# Altium integrated library NSC Logic Clock Clock Support.IntLib: 83 symbols (part 2 of 2)
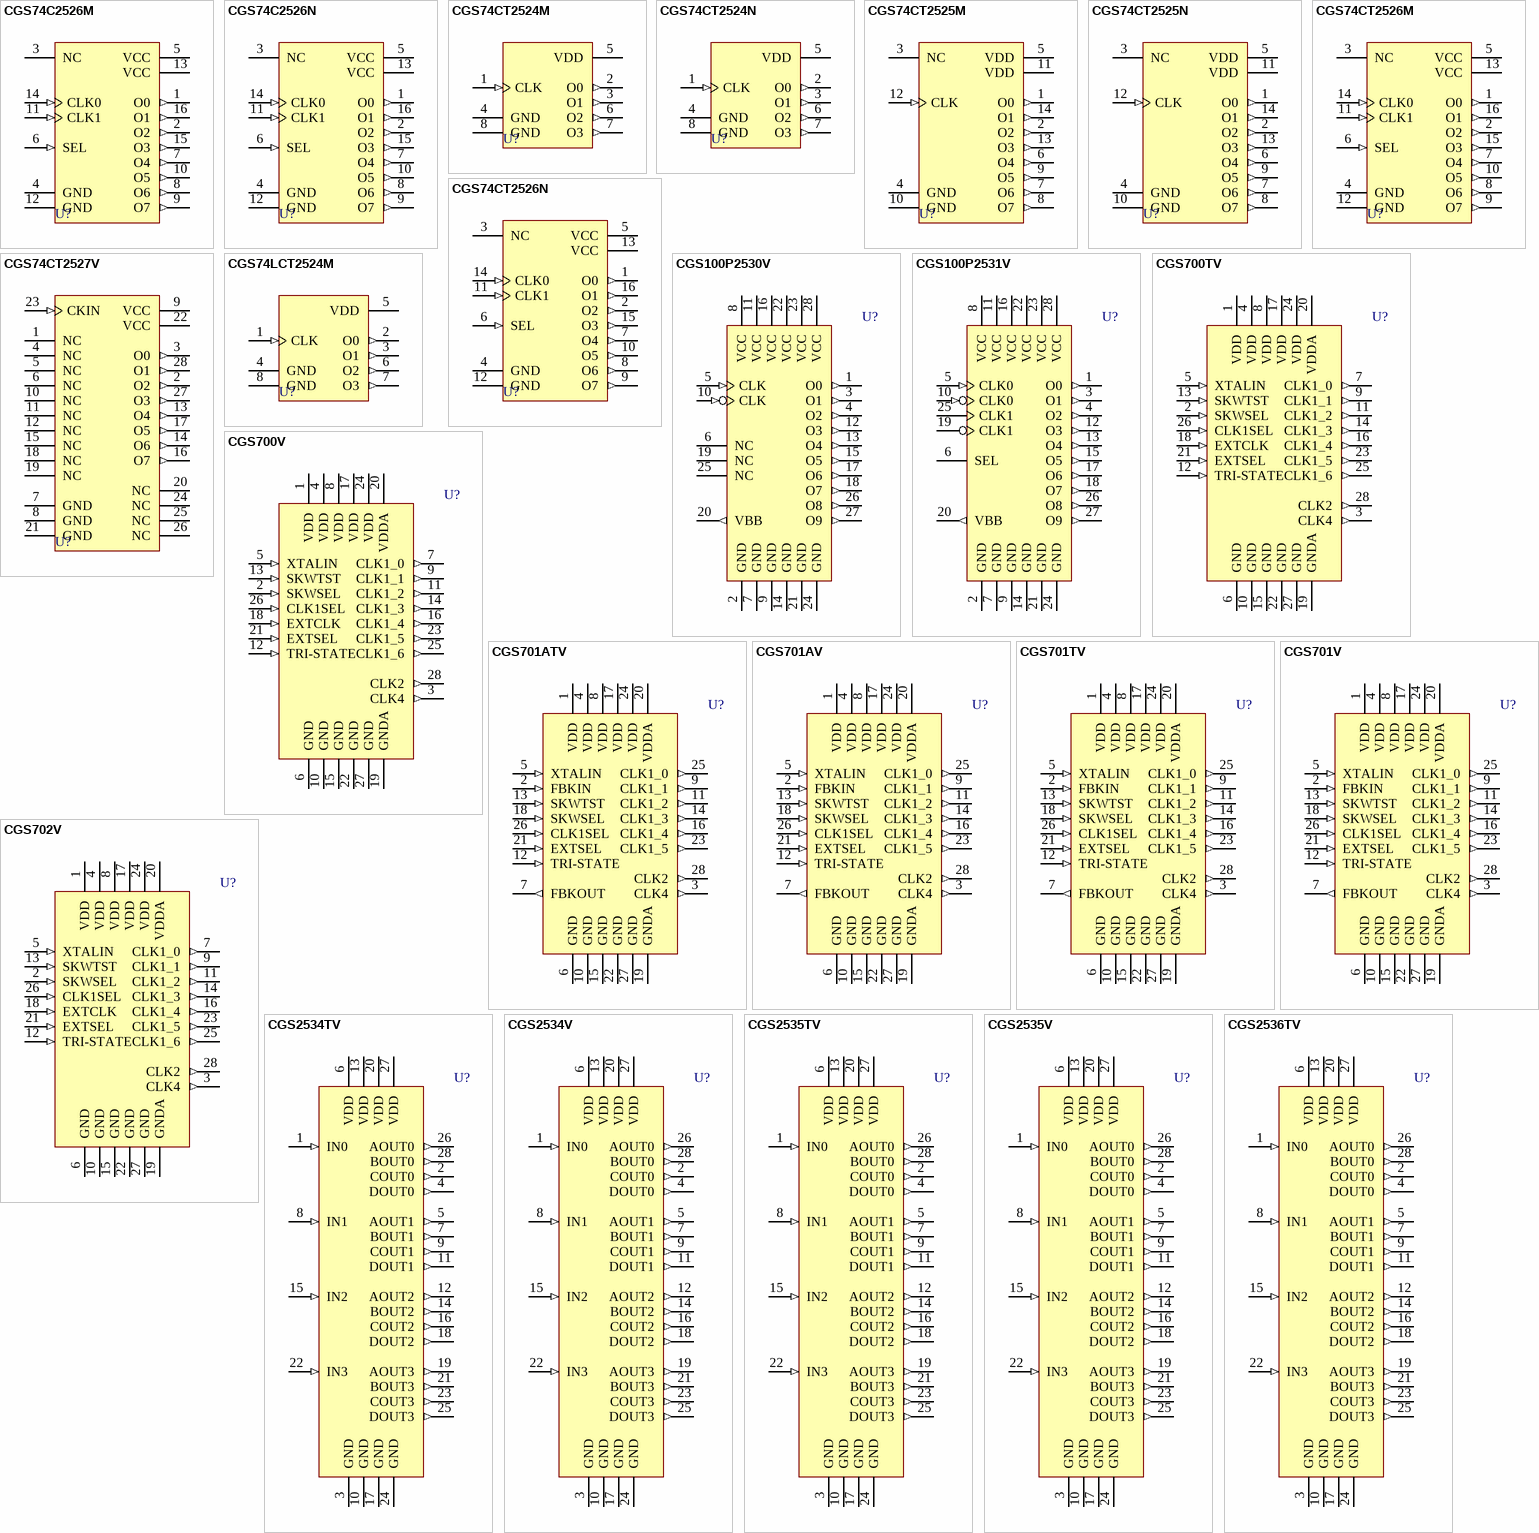
[diagram p3: symbols CGS74C2526M to CGS2536TV]

## CGS74CT2527V
designator U?
1-to-8 Minimum Skew (450 ps) Clock Driver; ComponentAvailability: Obsolete; Published: 15-Apr-2002; LatestRevisionDate: 13-Apr-2006; LatestRevisionNote: IPC-7351 Footprint Added.; DatasheetVersion: Apr-1993; PackageVersion: 2000; PackageReference: V28A; Publisher: Altium Limited; PackageDescription: 28-Pin Leaded Chip Carrier 1.27 mm Pitch; Code_IPC: PLCC-28; ComponentLink1Description: Manufacturer Link; ComponentLink1URL: http://www.national.com/; ComponentLink2Description: Discontinuation Notice; ComponentLink2URL: http://www.national.com/obs/obsolescence.txt
footprint V28A_N (Leaded Chip Carrier, 28-Leads, Body 11.5x11.5mm, Pitch 1.27mm, IPC Medium Density)
footprint V28A_L (Leaded Chip Carrier, 28-Leads, Body 11.5x11.5mm, Pitch 1.27mm, IPC High Density)
footprint V28A_M (Leaded Chip Carrier, 28-Leads, Body 11.5x11.5mm, Pitch 1.27mm, IPC Low Density)
3D model CGS74CT2527-V28A (28-Pin Leaded Chip Carrier 1.27 mm Pitch)
pins: 1 NC, 2 O2 (out), 3 O0 (out), 4 NC, 5 NC, 6 NC, 7 GND (power), 8 GND (power), 9 VCC (power), 10 NC, 11 NC, 12 NC, 13 O4 (out), 14 O6 (out), 15 NC, 16 O7 (out), 17 O5 (out), 18 NC, 19 NC, 20 NC, 21 GND (power), 22 VCC (power), 23 CKIN (in), 24 NC, 25 NC, 26 NC, 27 O3 (out), 28 O1 (out)

## CGS74LCT2524M
designator U?
1 to 4 Minimum Skew (300 ps) 3V Clock Driver; Published: 15-Apr-2002; LatestRevisionDate: 13-Apr-2006; LatestRevisionNote: IPC-7351 Footprint Added.; DatasheetVersion: Sep-1995; PackageVersion: Sep-1997; PackageReference: M08A; Publisher: Altium Limited; PackageDescription: 8-Pin Small Outline Integrated Circuit 1.27 mm Pitch; Code_JEDEC: MS-012-AA; Code_IPC: SOIC127P600-8; ComponentLink1Description: Manufacturer Link; ComponentLink1URL: http://www.national.com/; ComponentLink2Description: Datasheet; ComponentLink2URL: http://www.national.com/ds.cgi/CG/CGS74LCT2524.pdf; ComponentLink3Description: URL Link1; ComponentLink3URL: http://www.national.com/pf/CG/CGS74LCT2524.html
footprint M08A_N (SOIC, 8-Leads, Body 4.9x3.9mm, Pitch 1.27mm, IPC Medium Density)
footprint M08A_L (SOIC, 8-Leads, Body 4.9x3.9mm, Pitch 1.27mm, IPC High Density)
footprint M08A_M (SOIC, 8-Leads, Body 4.9x3.9mm, Pitch 1.27mm, IPC Low Density)
3D model M08A (8-Pin Small Outline Integrated Circuit 1.27 mm Pitch)
pins: 1 CLK (in), 2 O0 (out), 3 O1 (out), 4 GND (power), 5 VDD (power), 6 O2 (out), 7 O3 (out), 8 GND (power)

## CGS100P2530V
designator U?
PECL-TTL 1 to 10 Minimum Skew Clock Driver; ComponentAvailability: Obsolete; Published: 15-Apr-2002; LatestRevisionDate: 13-Apr-2006; LatestRevisionNote: IPC-7351 Footprint Added.; DatasheetVersion: Sep-1995; PackageVersion: 2000; PackageReference: V28A; Publisher: Altium Limited; PackageDescription: 28-Pin Leaded Chip Carrier 1.27 mm Pitch; Code_IPC: PLCC-28; ComponentLink1Description: Manufacturer Link; ComponentLink1URL: http://www.national.com/; ComponentLink2Description: Discontinuation Notice; ComponentLink2URL: http://www.national.com/obs/obsolescence.txt
footprint V28A_N (Leaded Chip Carrier, 28-Leads, Body 11.5x11.5mm, Pitch 1.27mm, IPC Medium Density)
footprint V28A_L (Leaded Chip Carrier, 28-Leads, Body 11.5x11.5mm, Pitch 1.27mm, IPC High Density)
footprint V28A_M (Leaded Chip Carrier, 28-Leads, Body 11.5x11.5mm, Pitch 1.27mm, IPC Low Density)
3D model CGS100P2530-V28A (28-Pin Leaded Chip Carrier 1.27 mm Pitch)
pins: 1 O0 (out), 2 GND (power), 3 O1 (out), 4 O2 (out), 5 CLK (in), 6 NC, 7 GND (power), 8 VCC (power), 9 GND (power), 10 CLK (in), 11 VCC (power), 12 O3 (out), 13 O4 (out), 14 GND (power), 15 O5 (out), 16 VCC (power), 17 O6 (out), 18 O7 (out), 19 NC, 20 VBB (out), 21 GND (power), 22 VCC (power), 23 VCC (power), 24 GND (power), 25 NC, 26 O8 (out), 27 O9 (out), 28 VCC (power)

## CGS100P2531V
designator U?
PECL-TTL 1 to 10 Minimum Skew Clock Driver; ComponentAvailability: Obsolete; Published: 15-Apr-2002; LatestRevisionDate: 13-Apr-2006; LatestRevisionNote: IPC-7351 Footprint Added.; DatasheetVersion: Sep-1995; PackageVersion: 2000; PackageReference: V28A; Publisher: Altium Limited; PackageDescription: 28-Pin Leaded Chip Carrier 1.27 mm Pitch; Code_IPC: PLCC-28; ComponentLink1Description: Manufacturer Link; ComponentLink1URL: http://www.national.com/; ComponentLink2Description: Discontinuation Notice; ComponentLink2URL: http://www.national.com/obs/obsolescence.txt
footprint V28A_N (Leaded Chip Carrier, 28-Leads, Body 11.5x11.5mm, Pitch 1.27mm, IPC Medium Density)
footprint V28A_L (Leaded Chip Carrier, 28-Leads, Body 11.5x11.5mm, Pitch 1.27mm, IPC High Density)
footprint V28A_M (Leaded Chip Carrier, 28-Leads, Body 11.5x11.5mm, Pitch 1.27mm, IPC Low Density)
3D model CGS100P2531-V28A (28-Pin Leaded Chip Carrier 1.27 mm Pitch)
pins: 1 O0 (out), 2 GND (power), 3 O1 (out), 4 O2 (out), 5 CLK0 (in), 6 SEL, 7 GND (power), 8 VCC (power), 9 GND (power), 10 CLK0 (in), 11 VCC (power), 12 O3 (out), 13 O4 (out), 14 GND (power), 15 O5 (out), 16 VCC (power), 17 O6 (out), 18 O7 (out), 19 CLK1, 20 VBB (out), 21 GND (power), 22 VCC (power), 23 VCC (power), 24 GND (power), 25 CLK1, 26 O8 (out), 27 O9 (out), 28 VCC (power)

## CGS700TV
designator U?
Low Skew PLL 1 to 9 CMOS Clock Driver; Published: 15-Apr-2002; LatestRevisionDate: 13-Apr-2006; LatestRevisionNote: IPC-7351 Footprint Added.; DatasheetVersion: Sep-1995; PackageVersion: 2000; PackageReference: V28A; Publisher: Altium Limited; PackageDescription: 28-Pin Leaded Chip Carrier 1.27 mm Pitch; Code_IPC: PLCC-28; ComponentLink1Description: Manufacturer Link; ComponentLink1URL: http://www.national.com/
footprint V28A_N (Leaded Chip Carrier, 28-Leads, Body 11.5x11.5mm, Pitch 1.27mm, IPC Medium Density)
footprint V28A_L (Leaded Chip Carrier, 28-Leads, Body 11.5x11.5mm, Pitch 1.27mm, IPC High Density)
footprint V28A_M (Leaded Chip Carrier, 28-Leads, Body 11.5x11.5mm, Pitch 1.27mm, IPC Low Density)
3D model CGS700-V28A (28-Pin Leaded Chip Carrier 1.27 mm Pitch)
signal-integrity model CGS700TV
pins: 1 VDD (power), 2 SKWSEL (in), 3 CLK4 (out), 4 VDD (power), 5 XTALIN (in), 6 GND (power), 7 CLK1_0 (out), 8 VDD (power), 9 CLK1_1 (out), 10 GND (power), 11 CLK1_2 (out), 12 TRI-STATE (in), 13 SKWTST (in), 14 CLK1_3 (out), 15 GND (power), 16 CLK1_4 (out), 17 VDD (power), 18 EXTCLK (in), 19 GNDA (power), 20 VDDA (power), 21 EXTSEL (in), 22 GND (power), 23 CLK1_5 (out), 24 VDD (power), 25 CLK1_6 (out), 26 CLK1SEL (in), 27 GND (power), 28 CLK2 (out)

## CGS700V
designator U?
Low Skew PLL 1 to 9 CMOS Clock Driver; ComponentAvailability: Obsolete; Published: 15-Apr-2002; LatestRevisionDate: 13-Apr-2006; LatestRevisionNote: IPC-7351 Footprint Added.; DatasheetVersion: Sep-1995; PackageVersion: 2000; PackageReference: V28A; Publisher: Altium Limited; PackageDescription: 28-Pin Leaded Chip Carrier 1.27 mm Pitch; Code_IPC: PLCC-28; ComponentLink1Description: Manufacturer Link; ComponentLink1URL: http://www.national.com/; ComponentLink2Description: Discontinuation Notice; ComponentLink2URL: http://www.national.com/obs/obsolescence.txt
footprint V28A_N (Leaded Chip Carrier, 28-Leads, Body 11.5x11.5mm, Pitch 1.27mm, IPC Medium Density)
footprint V28A_L (Leaded Chip Carrier, 28-Leads, Body 11.5x11.5mm, Pitch 1.27mm, IPC High Density)
footprint V28A_M (Leaded Chip Carrier, 28-Leads, Body 11.5x11.5mm, Pitch 1.27mm, IPC Low Density)
3D model CGS700-V28A (28-Pin Leaded Chip Carrier 1.27 mm Pitch)
signal-integrity model CGS700V
pins: 1 VDD (power), 2 SKWSEL (in), 3 CLK4 (out), 4 VDD (power), 5 XTALIN (in), 6 GND (power), 7 CLK1_0 (out), 8 VDD (power), 9 CLK1_1 (out), 10 GND (power), 11 CLK1_2 (out), 12 TRI-STATE (in), 13 SKWTST (in), 14 CLK1_3 (out), 15 GND (power), 16 CLK1_4 (out), 17 VDD (power), 18 EXTCLK (in), 19 GNDA (power), 20 VDDA (power), 21 EXTSEL (in), 22 GND (power), 23 CLK1_5 (out), 24 VDD (power), 25 CLK1_6 (out), 26 CLK1SEL (in), 27 GND (power), 28 CLK2 (out)

## CGS701ATV
designator U?
Low Skew PLL 1 to 8 CMOS Clock Driver; ComponentAvailability: Obsolete; Published: 15-Apr-2002; LatestRevisionDate: 13-Apr-2006; LatestRevisionNote: IPC-7351 Footprint Added.; DatasheetVersion: Dec-1995; PackageVersion: 2000; PackageReference: V28A; Publisher: Altium Limited; PackageDescription: 28-Pin Leaded Chip Carrier 1.27 mm Pitch; Code_IPC: PLCC-28; ComponentLink1Description: Manufacturer Link; ComponentLink1URL: http://www.national.com/; ComponentLink2Description: Discontinuation Notice; ComponentLink2URL: http://www.national.com/obs/obsolescence.txt
footprint V28A_N (Leaded Chip Carrier, 28-Leads, Body 11.5x11.5mm, Pitch 1.27mm, IPC Medium Density)
footprint V28A_L (Leaded Chip Carrier, 28-Leads, Body 11.5x11.5mm, Pitch 1.27mm, IPC High Density)
footprint V28A_M (Leaded Chip Carrier, 28-Leads, Body 11.5x11.5mm, Pitch 1.27mm, IPC Low Density)
3D model CGS701A-V28A (28-Pin Leaded Chip Carrier 1.27 mm Pitch)
signal-integrity model CGS701ATV
pins: 1 VDD (power), 2 FBKIN (in), 3 CLK4 (out), 4 VDD (power), 5 XTALIN (in), 6 GND (power), 7 FBKOUT (out), 8 VDD (power), 9 CLK1_1 (out), 10 GND (power), 11 CLK1_2 (out), 12 TRI-STATE (in), 13 SKWTST (in), 14 CLK1_3 (out), 15 GND (power), 16 CLK1_4 (out), 17 VDD (power), 18 SKWSEL (in), 19 GNDA (power), 20 VDDA (power), 21 EXTSEL (in), 22 GND (power), 23 CLK1_5 (out), 24 VDD (power), 25 CLK1_0 (out), 26 CLK1SEL (in), 27 GND (power), 28 CLK2 (out)

## CGS701AV
designator U?
Low Skew PLL 1 to 8 CMOS Clock Driver; ComponentAvailability: Obsolete; Published: 15-Apr-2002; LatestRevisionDate: 13-Apr-2006; LatestRevisionNote: IPC-7351 Footprint Added.; DatasheetVersion: Dec-1995; PackageVersion: 2000; PackageReference: V28A; Publisher: Altium Limited; PackageDescription: 28-Pin Leaded Chip Carrier 1.27 mm Pitch; Code_IPC: PLCC-28; ComponentLink1Description: Manufacturer Link; ComponentLink1URL: http://www.national.com/; ComponentLink2Description: Discontinuation Notice; ComponentLink2URL: http://www.national.com/obs/obsolescence.txt
footprint V28A_N (Leaded Chip Carrier, 28-Leads, Body 11.5x11.5mm, Pitch 1.27mm, IPC Medium Density)
footprint V28A_L (Leaded Chip Carrier, 28-Leads, Body 11.5x11.5mm, Pitch 1.27mm, IPC High Density)
footprint V28A_M (Leaded Chip Carrier, 28-Leads, Body 11.5x11.5mm, Pitch 1.27mm, IPC Low Density)
3D model CGS701A-V28A (28-Pin Leaded Chip Carrier 1.27 mm Pitch)
signal-integrity model CGS701AV
pins: 1 VDD (power), 2 FBKIN (in), 3 CLK4 (out), 4 VDD (power), 5 XTALIN (in), 6 GND (power), 7 FBKOUT (out), 8 VDD (power), 9 CLK1_1 (out), 10 GND (power), 11 CLK1_2 (out), 12 TRI-STATE (in), 13 SKWTST (in), 14 CLK1_3 (out), 15 GND (power), 16 CLK1_4 (out), 17 VDD (power), 18 SKWSEL (in), 19 GNDA (power), 20 VDDA (power), 21 EXTSEL (in), 22 GND (power), 23 CLK1_5 (out), 24 VDD (power), 25 CLK1_0 (out), 26 CLK1SEL (in), 27 GND (power), 28 CLK2 (out)

## CGS701TV
designator U?
Low Skew PLL 1 to 8 CMOS Clock Driver; Published: 15-Apr-2002; LatestRevisionDate: 13-Apr-2006; LatestRevisionNote: IPC-7351 Footprint Added.; DatasheetVersion: 1994; PackageVersion: 2000; PackageReference: V28A; Publisher: Altium Limited; PackageDescription: 28-Pin Leaded Chip Carrier 1.27 mm Pitch; Code_IPC: PLCC-28; ComponentLink1Description: Manufacturer Link; ComponentLink1URL: http://www.national.com/
footprint V28A_N (Leaded Chip Carrier, 28-Leads, Body 11.5x11.5mm, Pitch 1.27mm, IPC Medium Density)
footprint V28A_L (Leaded Chip Carrier, 28-Leads, Body 11.5x11.5mm, Pitch 1.27mm, IPC High Density)
footprint V28A_M (Leaded Chip Carrier, 28-Leads, Body 11.5x11.5mm, Pitch 1.27mm, IPC Low Density)
3D model CGS701-V28A (28-Pin Leaded Chip Carrier 1.27 mm Pitch)
signal-integrity model CGS701TV
pins: 1 VDD (power), 2 FBKIN (in), 3 CLK4 (out), 4 VDD (power), 5 XTALIN (in), 6 GND (power), 7 FBKOUT (out), 8 VDD (power), 9 CLK1_1 (out), 10 GND (power), 11 CLK1_2 (out), 12 TRI-STATE (in), 13 SKWTST (in), 14 CLK1_3 (out), 15 GND (power), 16 CLK1_4 (out), 17 VDD (power), 18 SKWSEL (in), 19 GNDA (power), 20 VDDA (power), 21 EXTSEL (in), 22 GND (power), 23 CLK1_5 (out), 24 VDD (power), 25 CLK1_0 (out), 26 CLK1SEL (in), 27 GND (power), 28 CLK2 (out)

## CGS701V
designator U?
Low Skew PLL 1 to 8 CMOS Clock Driver; Published: 15-Apr-2002; LatestRevisionDate: 13-Apr-2006; LatestRevisionNote: IPC-7351 Footprint Added.; DatasheetVersion: 1994; PackageVersion: 2000; PackageReference: V28A; Publisher: Altium Limited; PackageDescription: 28-Pin Leaded Chip Carrier 1.27 mm Pitch; Code_IPC: PLCC-28; ComponentLink1Description: Manufacturer Link; ComponentLink1URL: http://www.national.com/
footprint V28A_N (Leaded Chip Carrier, 28-Leads, Body 11.5x11.5mm, Pitch 1.27mm, IPC Medium Density)
footprint V28A_L (Leaded Chip Carrier, 28-Leads, Body 11.5x11.5mm, Pitch 1.27mm, IPC High Density)
footprint V28A_M (Leaded Chip Carrier, 28-Leads, Body 11.5x11.5mm, Pitch 1.27mm, IPC Low Density)
3D model CGS701-V28A (28-Pin Leaded Chip Carrier 1.27 mm Pitch)
signal-integrity model CGS701V
pins: 1 VDD (power), 2 FBKIN (in), 3 CLK4 (out), 4 VDD (power), 5 XTALIN (in), 6 GND (power), 7 FBKOUT (out), 8 VDD (power), 9 CLK1_1 (out), 10 GND (power), 11 CLK1_2 (out), 12 TRI-STATE (in), 13 SKWTST (in), 14 CLK1_3 (out), 15 GND (power), 16 CLK1_4 (out), 17 VDD (power), 18 SKWSEL (in), 19 GNDA (power), 20 VDDA (power), 21 EXTSEL (in), 22 GND (power), 23 CLK1_5 (out), 24 VDD (power), 25 CLK1_0 (out), 26 CLK1SEL (in), 27 GND (power), 28 CLK2 (out)

## CGS702V
designator U?
Low Skew PLL 1 to 9 CMOS Clock Driver with Improved EMI; ComponentAvailability: Obsolete; Published: 15-Apr-2002; LatestRevisionDate: 13-Apr-2006; LatestRevisionNote: IPC-7351 Footprint Added.; DatasheetVersion: Apr-1995; PackageVersion: 2000; PackageReference: V28A; Publisher: Altium Limited; PackageDescription: 28-Pin Leaded Chip Carrier 1.27 mm Pitch; Code_IPC: PLCC-28; ComponentLink1Description: Manufacturer Link; ComponentLink1URL: http://www.national.com/; ComponentLink2Description: Discontinuation Notice; ComponentLink2URL: http://www.national.com/obs/obsolescence.txt
footprint V28A_N (Leaded Chip Carrier, 28-Leads, Body 11.5x11.5mm, Pitch 1.27mm, IPC Medium Density)
footprint V28A_L (Leaded Chip Carrier, 28-Leads, Body 11.5x11.5mm, Pitch 1.27mm, IPC High Density)
footprint V28A_M (Leaded Chip Carrier, 28-Leads, Body 11.5x11.5mm, Pitch 1.27mm, IPC Low Density)
3D model CGS702-V28A (28-Pin Leaded Chip Carrier 1.27 mm Pitch)
signal-integrity model CGS702V
pins: 1 VDD (power), 2 SKWSEL (in), 3 CLK4 (out), 4 VDD (power), 5 XTALIN (in), 6 GND (power), 7 CLK1_0 (out), 8 VDD (power), 9 CLK1_1 (out), 10 GND (power), 11 CLK1_2 (out), 12 TRI-STATE (in), 13 SKWTST (in), 14 CLK1_3 (out), 15 GND (power), 16 CLK1_4 (out), 17 VDD (power), 18 EXTCLK (in), 19 GNDA (power), 20 VDDA (power), 21 EXTSEL (in), 22 GND (power), 23 CLK1_5 (out), 24 VDD (power), 25 CLK1_6 (out), 26 CLK1SEL (in), 27 GND (power), 28 CLK2 (out)

## CGS2534TV
designator U?
Quad 1 to 4 Clock Drivers; ComponentAvailability: Obsolete; Published: 15-Apr-2002; LatestRevisionDate: 13-Apr-2006; LatestRevisionNote: IPC-7351 Footprint Added.; DatasheetVersion: Sep-1995; PackageVersion: 2000; PackageReference: V28A; Publisher: Altium Limited; PackageDescription: 28-Pin Leaded Chip Carrier 1.27 mm Pitch; Code_IPC: PLCC-28; ComponentLink1Description: Manufacturer Link; ComponentLink1URL: http://www.national.com/; ComponentLink2Description: Discontinuation Notice; ComponentLink2URL: http://www.national.com/obs/obsolescence.txt
footprint V28A_N (Leaded Chip Carrier, 28-Leads, Body 11.5x11.5mm, Pitch 1.27mm, IPC Medium Density)
footprint V28A_L (Leaded Chip Carrier, 28-Leads, Body 11.5x11.5mm, Pitch 1.27mm, IPC High Density)
footprint V28A_M (Leaded Chip Carrier, 28-Leads, Body 11.5x11.5mm, Pitch 1.27mm, IPC Low Density)
3D model CGS2534-V28A (28-Pin Leaded Chip Carrier 1.27 mm Pitch)
pins: 1 IN0 (in), 2 COUT0 (out), 3 GND (power), 4 DOUT0 (out), 5 AOUT1 (out), 6 VDD (power), 7 BOUT1 (out), 8 IN1 (in), 9 COUT1 (out), 10 GND (power), 11 DOUT1 (out), 12 AOUT2 (out), 13 VDD (power), 14 BOUT2 (out), 15 IN2 (in), 16 COUT2 (out), 17 GND (power), 18 DOUT2 (out), 19 AOUT3 (out), 20 VDD (power), 21 BOUT3 (out), 22 IN3 (in), 23 COUT3 (out), 24 GND (power), 25 DOUT3 (out), 26 AOUT0 (out), 27 VDD (power), 28 BOUT0 (out)

## CGS2534V
designator U?
Quad 1 to 4 Clock Drivers; ComponentAvailability: Obsolete; Published: 15-Apr-2002; LatestRevisionDate: 13-Apr-2006; LatestRevisionNote: IPC-7351 Footprint Added.; DatasheetVersion: Sep-1995; PackageVersion: 2000; PackageReference: V28A; Publisher: Altium Limited; PackageDescription: 28-Pin Leaded Chip Carrier 1.27 mm Pitch; Code_IPC: PLCC-28; ComponentLink1Description: Manufacturer Link; ComponentLink1URL: http://www.national.com/; ComponentLink2Description: Discontinuation Notice; ComponentLink2URL: http://www.national.com/obs/obsolescence.txt
footprint V28A_N (Leaded Chip Carrier, 28-Leads, Body 11.5x11.5mm, Pitch 1.27mm, IPC Medium Density)
footprint V28A_L (Leaded Chip Carrier, 28-Leads, Body 11.5x11.5mm, Pitch 1.27mm, IPC High Density)
footprint V28A_M (Leaded Chip Carrier, 28-Leads, Body 11.5x11.5mm, Pitch 1.27mm, IPC Low Density)
3D model CGS2534-V28A (28-Pin Leaded Chip Carrier 1.27 mm Pitch)
pins: 1 IN0 (in), 2 COUT0 (out), 3 GND (power), 4 DOUT0 (out), 5 AOUT1 (out), 6 VDD (power), 7 BOUT1 (out), 8 IN1 (in), 9 COUT1 (out), 10 GND (power), 11 DOUT1 (out), 12 AOUT2 (out), 13 VDD (power), 14 BOUT2 (out), 15 IN2 (in), 16 COUT2 (out), 17 GND (power), 18 DOUT2 (out), 19 AOUT3 (out), 20 VDD (power), 21 BOUT3 (out), 22 IN3 (in), 23 COUT3 (out), 24 GND (power), 25 DOUT3 (out), 26 AOUT0 (out), 27 VDD (power), 28 BOUT0 (out)

## CGS2535TV
designator U?
Quad 1 to 4 Clock Drivers; Published: 15-Apr-2002; LatestRevisionDate: 13-Apr-2006; LatestRevisionNote: IPC-7351 Footprint Added.; DatasheetVersion: Mar-1997; PackageVersion: 2000; PackageReference: V28A; Publisher: Altium Limited; PackageDescription: 28-Pin Leaded Chip Carrier 1.27 mm Pitch; Code_IPC: PLCC-28; ComponentLink1Description: Manufacturer Link; ComponentLink1URL: http://www.national.com/; ComponentLink2Description: Datasheet; ComponentLink2URL: http://www.national.com/ds.cgi/CG/CGS2535TV.pdf; ComponentLink3Description: URL Link1; ComponentLink3URL: http://www.national.com/pf/CG/CGS2535TV.html
footprint V28A_N (Leaded Chip Carrier, 28-Leads, Body 11.5x11.5mm, Pitch 1.27mm, IPC Medium Density)
footprint V28A_L (Leaded Chip Carrier, 28-Leads, Body 11.5x11.5mm, Pitch 1.27mm, IPC High Density)
footprint V28A_M (Leaded Chip Carrier, 28-Leads, Body 11.5x11.5mm, Pitch 1.27mm, IPC Low Density)
3D model CGS2535-V28A (28-Pin Leaded Chip Carrier 1.27 mm Pitch)
pins: 1 IN0 (in), 2 COUT0 (out), 3 GND (power), 4 DOUT0 (out), 5 AOUT1 (out), 6 VDD (power), 7 BOUT1 (out), 8 IN1 (in), 9 COUT1 (out), 10 GND (power), 11 DOUT1 (out), 12 AOUT2 (out), 13 VDD (power), 14 BOUT2 (out), 15 IN2 (in), 16 COUT2 (out), 17 GND (power), 18 DOUT2 (out), 19 AOUT3 (out), 20 VDD (power), 21 BOUT3 (out), 22 IN3 (in), 23 COUT3 (out), 24 GND (power), 25 DOUT3 (out), 26 AOUT0 (out), 27 VDD (power), 28 BOUT0 (out)

## CGS2535V
designator U?
Quad 1 to 4 Clock Drivers; Published: 15-Apr-2002; LatestRevisionDate: 13-Apr-2006; LatestRevisionNote: IPC-7351 Footprint Added.; DatasheetVersion: Mar-1997; PackageVersion: 2000; PackageReference: V28A; Publisher: Altium Limited; PackageDescription: 28-Pin Leaded Chip Carrier 1.27 mm Pitch; Code_IPC: PLCC-28; ComponentLink1Description: Manufacturer Link; ComponentLink1URL: http://www.national.com/; ComponentLink2Description: Datasheet; ComponentLink2URL: http://www.national.com/ds.cgi/CG/CGS2535TV.pdf; ComponentLink3Description: URL Link1; ComponentLink3URL: http://www.national.com/pf/CG/CGS2535V.html
footprint V28A_N (Leaded Chip Carrier, 28-Leads, Body 11.5x11.5mm, Pitch 1.27mm, IPC Medium Density)
footprint V28A_L (Leaded Chip Carrier, 28-Leads, Body 11.5x11.5mm, Pitch 1.27mm, IPC High Density)
footprint V28A_M (Leaded Chip Carrier, 28-Leads, Body 11.5x11.5mm, Pitch 1.27mm, IPC Low Density)
3D model CGS2535-V28A (28-Pin Leaded Chip Carrier 1.27 mm Pitch)
pins: 1 IN0 (in), 2 COUT0 (out), 3 GND (power), 4 DOUT0 (out), 5 AOUT1 (out), 6 VDD (power), 7 BOUT1 (out), 8 IN1 (in), 9 COUT1 (out), 10 GND (power), 11 DOUT1 (out), 12 AOUT2 (out), 13 VDD (power), 14 BOUT2 (out), 15 IN2 (in), 16 COUT2 (out), 17 GND (power), 18 DOUT2 (out), 19 AOUT3 (out), 20 VDD (power), 21 BOUT3 (out), 22 IN3 (in), 23 COUT3 (out), 24 GND (power), 25 DOUT3 (out), 26 AOUT0 (out), 27 VDD (power), 28 BOUT0 (out)

## CGS2536TV
designator U?
Quad 1 to 4 Clock Drivers; Published: 15-Apr-2002; LatestRevisionDate: 13-Apr-2006; LatestRevisionNote: IPC-7351 Footprint Added.; DatasheetVersion: Sep-1995; PackageVersion: 2000; PackageReference: V28A; Publisher: Altium Limited; PackageDescription: 28-Pin Leaded Chip Carrier 1.27 mm Pitch; Code_IPC: PLCC-28; ComponentLink1Description: Manufacturer Link; ComponentLink1URL: http://www.national.com/
footprint V28A_N (Leaded Chip Carrier, 28-Leads, Body 11.5x11.5mm, Pitch 1.27mm, IPC Medium Density)
footprint V28A_L (Leaded Chip Carrier, 28-Leads, Body 11.5x11.5mm, Pitch 1.27mm, IPC High Density)
footprint V28A_M (Leaded Chip Carrier, 28-Leads, Body 11.5x11.5mm, Pitch 1.27mm, IPC Low Density)
3D model CGS2536-V28A (28-Pin Leaded Chip Carrier 1.27 mm Pitch)
pins: 1 IN0 (in), 2 COUT0 (out), 3 GND (power), 4 DOUT0 (out), 5 AOUT1 (out), 6 VDD (power), 7 BOUT1 (out), 8 IN1 (in), 9 COUT1 (out), 10 GND (power), 11 DOUT1 (out), 12 AOUT2 (out), 13 VDD (power), 14 BOUT2 (out), 15 IN2 (in), 16 COUT2 (out), 17 GND (power), 18 DOUT2 (out), 19 AOUT3 (out), 20 VDD (power), 21 BOUT3 (out), 22 IN3 (in), 23 COUT3 (out), 24 GND (power), 25 DOUT3 (out), 26 AOUT0 (out), 27 VDD (power), 28 BOUT0 (out)

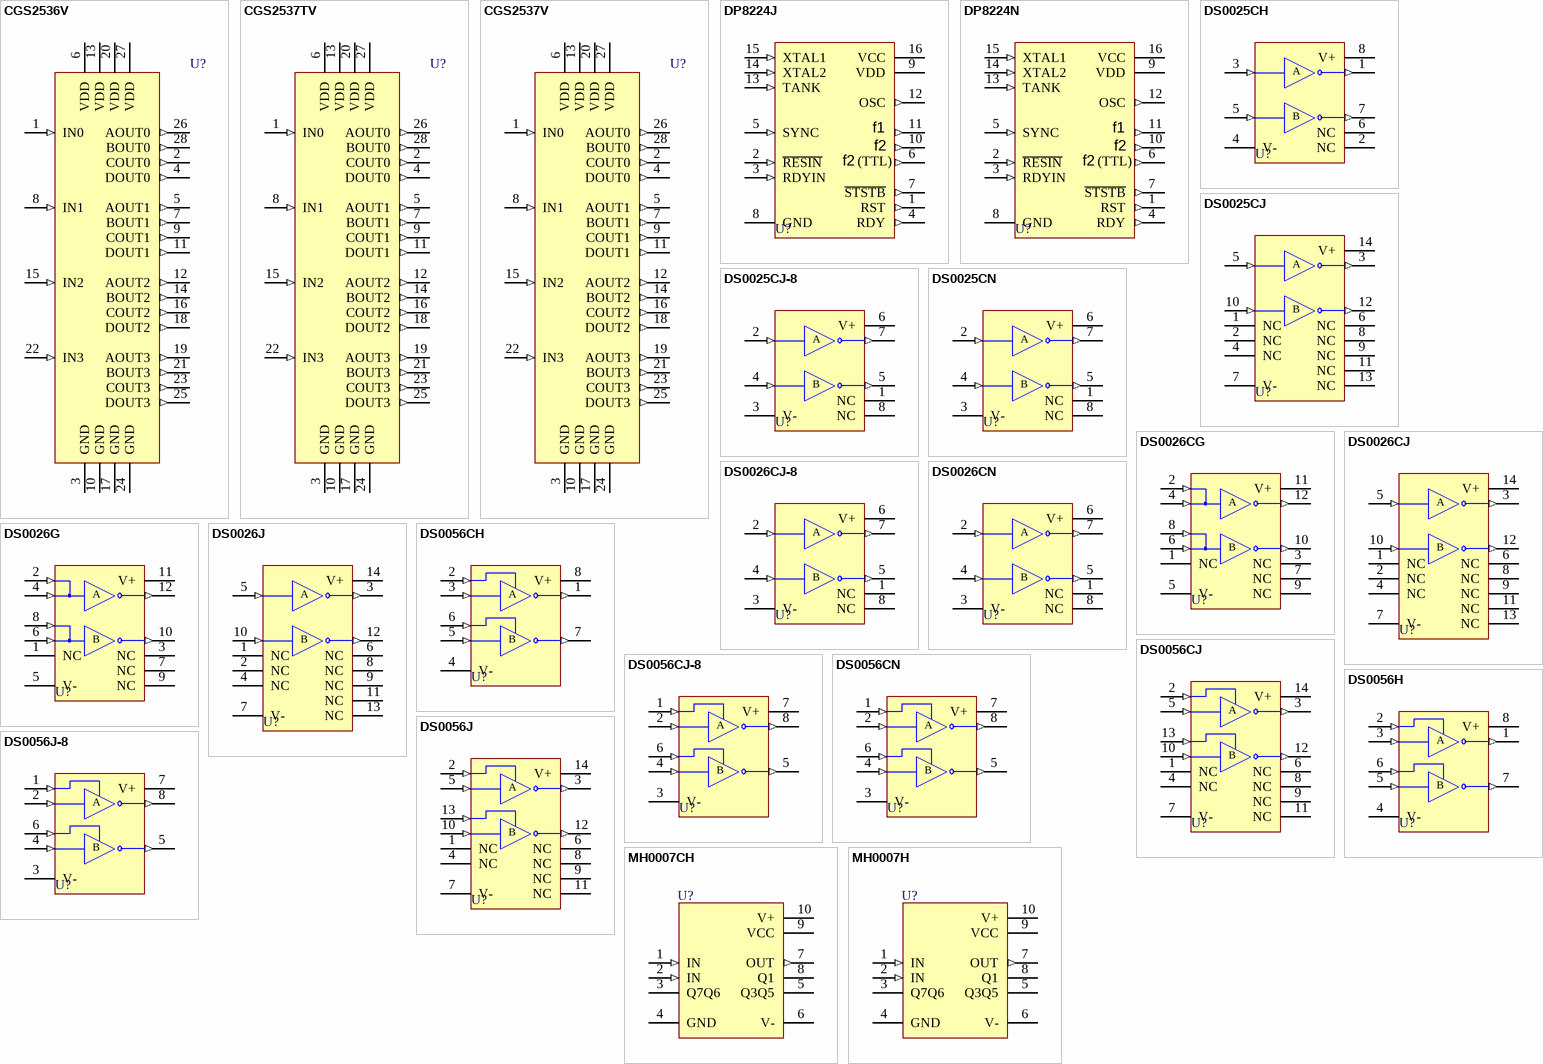
[diagram p2: symbols CGS2536V to MH0007H]

## CGS2536V
designator U?
Quad 1 to 4 Clock Drivers; ComponentAvailability: Obsolete; Published: 15-Apr-2002; LatestRevisionDate: 13-Apr-2006; LatestRevisionNote: IPC-7351 Footprint Added.; DatasheetVersion: Sep-1995; PackageVersion: 2000; PackageReference: V28A; Publisher: Altium Limited; PackageDescription: 28-Pin Leaded Chip Carrier 1.27 mm Pitch; Code_IPC: PLCC-28; ComponentLink1Description: Manufacturer Link; ComponentLink1URL: http://www.national.com/; ComponentLink2Description: Discontinuation Notice; ComponentLink2URL: http://www.national.com/obs/obsolescence.txt
footprint V28A_N (Leaded Chip Carrier, 28-Leads, Body 11.5x11.5mm, Pitch 1.27mm, IPC Medium Density)
footprint V28A_L (Leaded Chip Carrier, 28-Leads, Body 11.5x11.5mm, Pitch 1.27mm, IPC High Density)
footprint V28A_M (Leaded Chip Carrier, 28-Leads, Body 11.5x11.5mm, Pitch 1.27mm, IPC Low Density)
3D model CGS2536-V28A (28-Pin Leaded Chip Carrier 1.27 mm Pitch)
pins: 1 IN0 (in), 2 COUT0 (out), 3 GND (power), 4 DOUT0 (out), 5 AOUT1 (out), 6 VDD (power), 7 BOUT1 (out), 8 IN1 (in), 9 COUT1 (out), 10 GND (power), 11 DOUT1 (out), 12 AOUT2 (out), 13 VDD (power), 14 BOUT2 (out), 15 IN2 (in), 16 COUT2 (out), 17 GND (power), 18 DOUT2 (out), 19 AOUT3 (out), 20 VDD (power), 21 BOUT3 (out), 22 IN3 (in), 23 COUT3 (out), 24 GND (power), 25 DOUT3 (out), 26 AOUT0 (out), 27 VDD (power), 28 BOUT0 (out)

## CGS2537TV
designator U?
Quad 1 to 4 Clock Drivers; ComponentAvailability: Obsolete; Published: 15-Apr-2002; LatestRevisionDate: 13-Apr-2006; LatestRevisionNote: IPC-7351 Footprint Added.; DatasheetVersion: Sep-1995; PackageVersion: 2000; PackageReference: V28A; Publisher: Altium Limited; PackageDescription: 28-Pin Leaded Chip Carrier 1.27 mm Pitch; Code_IPC: PLCC-28; ComponentLink1Description: Manufacturer Link; ComponentLink1URL: http://www.national.com/; ComponentLink2Description: Discontinuation Notice; ComponentLink2URL: http://www.national.com/obs/obsolescence.txt
footprint V28A_N (Leaded Chip Carrier, 28-Leads, Body 11.5x11.5mm, Pitch 1.27mm, IPC Medium Density)
footprint V28A_L (Leaded Chip Carrier, 28-Leads, Body 11.5x11.5mm, Pitch 1.27mm, IPC High Density)
footprint V28A_M (Leaded Chip Carrier, 28-Leads, Body 11.5x11.5mm, Pitch 1.27mm, IPC Low Density)
3D model CGS2537-V28A (28-Pin Leaded Chip Carrier 1.27 mm Pitch)
pins: 1 IN0 (in), 2 COUT0 (out), 3 GND (power), 4 DOUT0 (out), 5 AOUT1 (out), 6 VDD (power), 7 BOUT1 (out), 8 IN1 (in), 9 COUT1 (out), 10 GND (power), 11 DOUT1 (out), 12 AOUT2 (out), 13 VDD (power), 14 BOUT2 (out), 15 IN2 (in), 16 COUT2 (out), 17 GND (power), 18 DOUT2 (out), 19 AOUT3 (out), 20 VDD (power), 21 BOUT3 (out), 22 IN3 (in), 23 COUT3 (out), 24 GND (power), 25 DOUT3 (out), 26 AOUT0 (out), 27 VDD (power), 28 BOUT0 (out)

## CGS2537V
designator U?
Quad 1 to 4 Clock Drivers; ComponentAvailability: Obsolete; Published: 15-Apr-2002; LatestRevisionDate: 13-Apr-2006; LatestRevisionNote: IPC-7351 Footprint Added.; DatasheetVersion: Sep-1995; PackageVersion: 2000; PackageReference: V28A; Publisher: Altium Limited; PackageDescription: 28-Pin Leaded Chip Carrier 1.27 mm Pitch; Code_IPC: PLCC-28; ComponentLink1Description: Manufacturer Link; ComponentLink1URL: http://www.national.com/; ComponentLink2Description: Discontinuation Notice; ComponentLink2URL: http://www.national.com/obs/obsolescence.txt
footprint V28A_N (Leaded Chip Carrier, 28-Leads, Body 11.5x11.5mm, Pitch 1.27mm, IPC Medium Density)
footprint V28A_L (Leaded Chip Carrier, 28-Leads, Body 11.5x11.5mm, Pitch 1.27mm, IPC High Density)
footprint V28A_M (Leaded Chip Carrier, 28-Leads, Body 11.5x11.5mm, Pitch 1.27mm, IPC Low Density)
3D model CGS2537-V28A (28-Pin Leaded Chip Carrier 1.27 mm Pitch)
pins: 1 IN0 (in), 2 COUT0 (out), 3 GND (power), 4 DOUT0 (out), 5 AOUT1 (out), 6 VDD (power), 7 BOUT1 (out), 8 IN1 (in), 9 COUT1 (out), 10 GND (power), 11 DOUT1 (out), 12 AOUT2 (out), 13 VDD (power), 14 BOUT2 (out), 15 IN2 (in), 16 COUT2 (out), 17 GND (power), 18 DOUT2 (out), 19 AOUT3 (out), 20 VDD (power), 21 BOUT3 (out), 22 IN3 (in), 23 COUT3 (out), 24 GND (power), 25 DOUT3 (out), 26 AOUT0 (out), 27 VDD (power), 28 BOUT0 (out)

## DP8224J
designator U?
Clock Generator and Driver; Published: 15-Apr-2002; LatestRevisionDate: 06-Jun-2005; LatestRevisionNote: Stylized 3D Model Added.; DatasheetVersion: Jun-1986; PackageVersion: 2000; PackageReference: J16A; Publisher: Altium Limited; PackageDescription: DIP; 16 Leads; Row Spacing 7.62 mm; Pitch 2.54 mm; ComponentLink1Description: Manufacturer Link; ComponentLink1URL: http://www.national.com/; ComponentLink2Description: Datasheet; ComponentLink2URL: http://www.national.com/ds.cgi/DP/DP8224.pdf; ComponentLink3Description: URL Link1; ComponentLink3URL: http://www.national.com/pf/DP/DP8224.html
footprint J16A (DIP; 16 Leads; Row Spacing 7.62 mm; Pitch 2.54 mm)
3D model N16E (DIP; 16 Leads; Row Spacing 7.62 mm; Pitch 2.54 mm)
pins: 1 RST (out), 2 ~{RESIN} (in), 3 RDYIN (in), 4 RDY (out), 5 SYNC (in), 6 PHI2(TTL) (out), 7 ~{STSTB} (out), 8 GND (power), 9 VDD (power), 10 PHI2 (out), 11 PHI1 (out), 12 OSC (out), 13 TANK (in), 14 XTAL2 (in), 15 XTAL1 (in), 16 VCC (power)
text: f1; f2; (TTL)

## DP8224N
designator U?
Clock Generator and Driver; ComponentAvailability: Obsolete; Published: 15-Apr-2002; LatestRevisionDate: 06-Jun-2005; LatestRevisionNote: Stylized 3D Model Added.; DatasheetVersion: Jun-1986; PackageVersion: 2000; PackageReference: N16A; Publisher: Altium Limited; PackageDescription: DIP; 16 Leads; Row Spacing 7.62 mm; Pitch 2.54 mm; ComponentLink1Description: Manufacturer Link; ComponentLink1URL: http://www.national.com/; ComponentLink2Description: Datasheet; ComponentLink2URL: http://www.national.com/ds.cgi/DP/DP8224.pdf; ComponentLink3Description: Discontinuation Notice; ComponentLink3URL: http://www.national.com/obs/obsolescence.txt; ComponentLink4Description: URL Link1; ComponentLink4URL: http://www.national.com/pf/DP/DP8224.html
footprint N16A (DIP; 16 Leads; Row Spacing 7.62 mm; Pitch 2.54 mm)
3D model N16A (DIP; 16 Leads; Row Spacing 7.62 mm; Pitch 2.54 mm)
pins: 1 RST (out), 2 ~{RESIN} (in), 3 RDYIN (in), 4 RDY (out), 5 SYNC (in), 6 PHI2(TTL) (out), 7 ~{STSTB} (out), 8 GND (power), 9 VDD (power), 10 PHI2 (out), 11 PHI1 (out), 12 OSC (out), 13 TANK (in), 14 XTAL2 (in), 15 XTAL1 (in), 16 VCC (power)
text: f1; f2; (TTL)

## DS0025CH
designator U?
Two Phase MOS Clock Driver; Note: Pin 4 is connected to case.; Published: 15-Apr-2002; DatasheetVersion: Jun-1992; PackageVersion: 2000; PackageReference: H08C; Publisher: Altium Limited; PackageDescription: Can; 8 Leads; Pin Circle Dia. 5.08 mm; Lead Dia. 0.48 mm (max); ComponentLink1Description: Manufacturer Link; ComponentLink1URL: http://www.national.com/
footprint H08C (Can; 8 Leads; Pin Circle Dia. 5.08 mm; Lead Dia. 0.48 mm (max))
pins: 1 OUT (out), 2 NC, 3 IN (in), 4 V- (power), 5 IN (in), 6 NC, 7 OUT (out), 8 V+ (power)
text: A; B

## DS0025CJ
designator U?
Two Phase MOS Clock Driver; Published: 15-Apr-2002; LatestRevisionDate: 06-Jun-2005; LatestRevisionNote: Stylized 3D Model Added.; DatasheetVersion: Jun-1992; PackageVersion: 2000; PackageReference: J14A; Publisher: Altium Limited; PackageDescription: DIP; 14 Leads; Row Spacing 7.62 mm; Pitch 2.54 mm; ComponentLink1Description: Manufacturer Link; ComponentLink1URL: http://www.national.com/
footprint J14A (DIP; 14 Leads; Row Spacing 7.62 mm; Pitch 2.54 mm)
3D model J14A (DIP; 14 Leads; Row Spacing 7.62 mm; Pitch 2.54 mm)
pins: 1 NC, 2 NC, 3 OUT (out), 4 NC, 5 IN (in), 6 NC, 7 V- (power), 8 NC, 9 NC, 10 IN (in), 11 NC, 12 OUT (out), 13 NC, 14 V+ (power)
text: A; B

## DS0025CJ-8
designator U?
Two Phase MOS Clock Driver; Published: 15-Apr-2002; LatestRevisionDate: 06-Jun-2005; LatestRevisionNote: Stylized 3D Model Added.; DatasheetVersion: Jun-1992; PackageVersion: 2000; PackageReference: J08A; Publisher: Altium Limited; PackageDescription: DIP; 8 Leads; Row Spacing 7.62 mm; Pitch 2.54 mm; ComponentLink1Description: Manufacturer Link; ComponentLink1URL: http://www.national.com/
footprint J08A (DIP; 8 Leads; Row Spacing 7.62 mm; Pitch 2.54 mm)
3D model J08A (DIP; 8 Leads; Row Spacing 7.62 mm; Pitch 2.54 mm)
pins: 1 NC, 2 IN (in), 3 V- (power), 4 IN (in), 5 OUT (out), 6 V+ (power), 7 OUT (out), 8 NC
text: A; B

## DS0025CN
designator U?
Two Phase MOS Clock Driver; Published: 15-Apr-2002; LatestRevisionDate: 06-Jun-2005; LatestRevisionNote: Stylized 3D Model Added.; DatasheetVersion: Jun-1992; PackageVersion: Sep-1997; PackageReference: N08E; Publisher: Altium Limited; PackageDescription: DIP; 8 Leads; Row Spacing 7.62 mm; Pitch 2.54 mm; ComponentLink1Description: Manufacturer Link; ComponentLink1URL: http://www.national.com/
footprint N08E (DIP; 8 Leads; Row Spacing 7.62 mm; Pitch 2.54 mm)
3D model J08A (DIP; 8 Leads; Row Spacing 7.62 mm; Pitch 2.54 mm)
pins: 1 NC, 2 IN (in), 3 V- (power), 4 IN (in), 5 OUT (out), 6 V+ (power), 7 OUT (out), 8 NC
text: A; B

## DS0026CG
designator U?
5 MHz Two-Phase MOS Clock Driver; Published: 15-Apr-2002; DatasheetVersion: 1995; PackageVersion: 2000; PackageReference: G12B; Publisher: Altium Limited; PackageDescription: Can; 12 Leads; 10.16 mm Square Array; Lead Dia. 0.48 mm (max); ComponentLink1Description: Manufacturer Link; ComponentLink1URL: http://www.national.com/; ComponentLink2Description: Datasheet; ComponentLink2URL: http://www.national.com/ds.cgi/DS/DS0026.pdf; ComponentLink3Description: URL Link1; ComponentLink3URL: http://www.national.com/pf/DS/DS0026.html
footprint G12B (Can; 12 Leads; 10.16 mm Square Array; Lead Dia. 0.48 mm (max))
pins: 1 NC, 2 IN (in), 3 NC, 4 IN (in), 5 V- (power), 6 IN (in), 7 NC, 8 IN (in), 9 NC, 10 OUT (out), 11 V+ (power), 12 OUT (out)
text: A; B

## DS0026CJ
designator U?
5 MHz Two-Phase MOS Clock Driver; ComponentAvailability: Obsolete; Published: 15-Apr-2002; LatestRevisionDate: 06-Jun-2005; LatestRevisionNote: Stylized 3D Model Added.; DatasheetVersion: 1995; PackageVersion: 2000; PackageReference: J14A; Publisher: Altium Limited; PackageDescription: DIP; 14 Leads; Row Spacing 7.62 mm; Pitch 2.54 mm; ComponentLink1Description: Manufacturer Link; ComponentLink1URL: http://www.national.com/; ComponentLink2Description: Datasheet; ComponentLink2URL: http://www.national.com/ds.cgi/DS/DS0026.pdf; ComponentLink3Description: Discontinuation Notice; ComponentLink3URL: http://www.national.com/obs/obsolescence.txt; ComponentLink4Description: URL Link1; ComponentLink4URL: http://www.national.com/pf/DS/DS0026.html
footprint J14A (DIP; 14 Leads; Row Spacing 7.62 mm; Pitch 2.54 mm)
3D model J14A (DIP; 14 Leads; Row Spacing 7.62 mm; Pitch 2.54 mm)
pins: 1 NC, 2 NC, 3 OUT (out), 4 NC, 5 IN (in), 6 NC, 7 V- (power), 8 NC, 9 NC, 10 IN (in), 11 NC, 12 OUT (out), 13 NC, 14 V+ (power)
text: A; B

## DS0026CJ-8
designator U?
5 MHz Two-Phase MOS Clock Driver; ComponentAvailability: Obsolete; Published: 15-Apr-2002; LatestRevisionDate: 06-Jun-2005; LatestRevisionNote: Stylized 3D Model Added.; DatasheetVersion: 1995; PackageVersion: 2000; PackageReference: J08A; Publisher: Altium Limited; PackageDescription: DIP; 8 Leads; Row Spacing 7.62 mm; Pitch 2.54 mm; ComponentLink1Description: Manufacturer Link; ComponentLink1URL: http://www.national.com/; ComponentLink2Description: Datasheet; ComponentLink2URL: http://www.national.com/ds.cgi/DS/DS0026.pdf; ComponentLink3Description: Discontinuation Notice; ComponentLink3URL: http://www.national.com/obs/obsolescence.txt; ComponentLink4Description: URL Link1; ComponentLink4URL: http://www.national.com/pf/DS/DS0026.html
footprint J08A (DIP; 8 Leads; Row Spacing 7.62 mm; Pitch 2.54 mm)
3D model J08A (DIP; 8 Leads; Row Spacing 7.62 mm; Pitch 2.54 mm)
pins: 1 NC, 2 IN (in), 3 V- (power), 4 IN (in), 5 OUT (out), 6 V+ (power), 7 OUT (out), 8 NC
text: A; B

## DS0026CN
designator U?
Two Phase High-Speed MOS Clock Driver; ComponentAvailability: Obsolete; Published: 15-Apr-2002; LatestRevisionDate: 06-Jun-2005; LatestRevisionNote: Stylized 3D Model Added.; DatasheetVersion: Feb-2000; PackageVersion: Sep-1997; PackageReference: N08E; Publisher: Altium Limited; PackageDescription: DIP; 8 Leads; Row Spacing 7.62 mm; Pitch 2.54 mm; ComponentLink1Description: Manufacturer Link; ComponentLink1URL: http://www.national.com/; ComponentLink2Description: Datasheet; ComponentLink2URL: http://www.national.com/ds.cgi/DS/DS0026.pdf; ComponentLink3Description: Discontinuation Notice; ComponentLink3URL: http://www.national.com/obs/obsolescence.txt; ComponentLink4Description: URL Link1; ComponentLink4URL: http://www.national.com/pf/DS/DS0026.html
footprint N08E (DIP; 8 Leads; Row Spacing 7.62 mm; Pitch 2.54 mm)
3D model J08A (DIP; 8 Leads; Row Spacing 7.62 mm; Pitch 2.54 mm)
pins: 1 NC, 2 IN (in), 3 V- (power), 4 IN (in), 5 OUT (out), 6 V+ (power), 7 OUT (out), 8 NC
text: A; B

## DS0026G
designator U?
5 MHz Two-Phase MOS Clock Driver; Published: 15-Apr-2002; DatasheetVersion: 1995; PackageVersion: 2000; PackageReference: G12B; Publisher: Altium Limited; PackageDescription: Can; 12 Leads; 10.16 mm Square Array; Lead Dia. 0.48 mm (max); ComponentLink1Description: Manufacturer Link; ComponentLink1URL: http://www.national.com/; ComponentLink2Description: Datasheet; ComponentLink2URL: http://www.national.com/ds.cgi/DS/DS0026.pdf; ComponentLink3Description: URL Link1; ComponentLink3URL: http://www.national.com/pf/DS/DS0026.html
footprint G12B (Can; 12 Leads; 10.16 mm Square Array; Lead Dia. 0.48 mm (max))
pins: 1 NC, 2 IN (in), 3 NC, 4 IN (in), 5 V- (power), 6 IN (in), 7 NC, 8 IN (in), 9 NC, 10 OUT (out), 11 V+ (power), 12 OUT (out)
text: A; B

## DS0026J
designator U?
5 MHz Two-Phase MOS Clock Driver; ComponentAvailability: Obsolete; Published: 15-Apr-2002; LatestRevisionDate: 06-Jun-2005; LatestRevisionNote: Stylized 3D Model Added.; DatasheetVersion: 1995; PackageVersion: 2000; PackageReference: J14A; Publisher: Altium Limited; PackageDescription: DIP; 14 Leads; Row Spacing 7.62 mm; Pitch 2.54 mm; ComponentLink1Description: Manufacturer Link; ComponentLink1URL: http://www.national.com/; ComponentLink2Description: Datasheet; ComponentLink2URL: http://www.national.com/ds.cgi/DS/DS0026.pdf; ComponentLink3Description: Discontinuation Notice; ComponentLink3URL: http://www.national.com/obs/obsolescence.txt; ComponentLink4Description: URL Link1; ComponentLink4URL: http://www.national.com/pf/DS/DS0026.html
footprint J14A (DIP; 14 Leads; Row Spacing 7.62 mm; Pitch 2.54 mm)
3D model J14A (DIP; 14 Leads; Row Spacing 7.62 mm; Pitch 2.54 mm)
pins: 1 NC, 2 NC, 3 OUT (out), 4 NC, 5 IN (in), 6 NC, 7 V- (power), 8 NC, 9 NC, 10 IN (in), 11 NC, 12 OUT (out), 13 NC, 14 V+ (power)
text: A; B

## DS0056CH
designator U?
5 MHz Two-Phase MOS Clock Driver; Published: 15-Apr-2002; DatasheetVersion: Sep-1989; PackageVersion: 2000; PackageReference: H08C; Publisher: Altium Limited; PackageDescription: Can; 8 Leads; Pin Circle Dia. 5.08 mm; Lead Dia. 0.48 mm (max); ComponentLink1Description: Manufacturer Link; ComponentLink1URL: http://www.national.com/
footprint H08C (Can; 8 Leads; Pin Circle Dia. 5.08 mm; Lead Dia. 0.48 mm (max))
pins: 1 OUT (out), 2 VIN (in), 3 IN (in), 4 V- (power), 5 IN (in), 6 VIN (in), 7 OUT (out), 8 V+ (power)
text: A; B

## DS0056CJ
designator U?
5 MHz Two-Phase MOS Clock Driver; Published: 15-Apr-2002; LatestRevisionDate: 06-Jun-2005; LatestRevisionNote: Stylized 3D Model Added.; DatasheetVersion: Sep-1989; PackageVersion: 2000; PackageReference: J14A; Publisher: Altium Limited; PackageDescription: DIP; 14 Leads; Row Spacing 7.62 mm; Pitch 2.54 mm; ComponentLink1Description: Manufacturer Link; ComponentLink1URL: http://www.national.com/
footprint J14A (DIP; 14 Leads; Row Spacing 7.62 mm; Pitch 2.54 mm)
3D model J14A (DIP; 14 Leads; Row Spacing 7.62 mm; Pitch 2.54 mm)
pins: 1 NC, 2 VIN (in), 3 OUT (out), 4 NC, 5 IN (in), 6 NC, 7 V- (power), 8 NC, 9 NC, 10 IN (in), 11 NC, 12 OUT (out), 13 VIN (in), 14 V+ (power)
text: A; B

## DS0056CJ-8
designator U?
5 MHz Two-Phase MOS Clock Driver; Published: 15-Apr-2002; LatestRevisionDate: 06-Jun-2005; LatestRevisionNote: Stylized 3D Model Added.; DatasheetVersion: Sep-1989; PackageVersion: 2000; PackageReference: J08A; Publisher: Altium Limited; PackageDescription: DIP; 8 Leads; Row Spacing 7.62 mm; Pitch 2.54 mm; ComponentLink1Description: Manufacturer Link; ComponentLink1URL: http://www.national.com/
footprint J08A (DIP; 8 Leads; Row Spacing 7.62 mm; Pitch 2.54 mm)
3D model J08A (DIP; 8 Leads; Row Spacing 7.62 mm; Pitch 2.54 mm)
pins: 1 VIN (in), 2 IN (in), 3 V- (power), 4 IN (in), 5 OUT (out), 6 VIN (in), 7 V+ (power), 8 OUT (out)
text: A; B

## DS0056CN
designator U?
5 MHz Two-Phase MOS Clock Driver; ComponentAvailability: Obsolete; Published: 15-Apr-2002; LatestRevisionDate: 06-Jun-2005; LatestRevisionNote: Stylized 3D Model Added.; DatasheetVersion: Sep-1989; PackageVersion: Sep-1997; PackageReference: N08E; Publisher: Altium Limited; PackageDescription: DIP; 8 Leads; Row Spacing 7.62 mm; Pitch 2.54 mm; ComponentLink1Description: Manufacturer Link; ComponentLink1URL: http://www.national.com/; ComponentLink2Description: Discontinuation Notice; ComponentLink2URL: http://www.national.com/obs/obsolescence.txt
footprint N08E (DIP; 8 Leads; Row Spacing 7.62 mm; Pitch 2.54 mm)
3D model J08A (DIP; 8 Leads; Row Spacing 7.62 mm; Pitch 2.54 mm)
pins: 1 VIN (in), 2 IN (in), 3 V- (power), 4 IN (in), 5 OUT (out), 6 VIN (in), 7 V+ (power), 8 OUT (out)
text: A; B

## DS0056H
designator U?
5 MHz Two-Phase MOS Clock Driver; Published: 15-Apr-2002; DatasheetVersion: Sep-1989; PackageVersion: 2000; PackageReference: H08C; Publisher: Altium Limited; PackageDescription: Can; 8 Leads; Pin Circle Dia. 5.08 mm; Lead Dia. 0.48 mm (max); ComponentLink1Description: Manufacturer Link; ComponentLink1URL: http://www.national.com/
footprint H08C (Can; 8 Leads; Pin Circle Dia. 5.08 mm; Lead Dia. 0.48 mm (max))
pins: 1 OUT (out), 2 VIN (in), 3 IN (in), 4 V- (power), 5 IN (in), 6 VIN (in), 7 OUT (out), 8 V+ (power)
text: A; B

## DS0056J
designator U?
5 MHz Two-Phase MOS Clock Driver; Published: 15-Apr-2002; LatestRevisionDate: 06-Jun-2005; LatestRevisionNote: Stylized 3D Model Added.; DatasheetVersion: Sep-1989; PackageVersion: 2000; PackageReference: J14A; Publisher: Altium Limited; PackageDescription: DIP; 14 Leads; Row Spacing 7.62 mm; Pitch 2.54 mm; ComponentLink1Description: Manufacturer Link; ComponentLink1URL: http://www.national.com/
footprint J14A (DIP; 14 Leads; Row Spacing 7.62 mm; Pitch 2.54 mm)
3D model J14A (DIP; 14 Leads; Row Spacing 7.62 mm; Pitch 2.54 mm)
pins: 1 NC, 2 VIN (in), 3 OUT (out), 4 NC, 5 IN (in), 6 NC, 7 V- (power), 8 NC, 9 NC, 10 IN (in), 11 NC, 12 OUT (out), 13 VIN (in), 14 V+ (power)
text: A; B

## DS0056J-8
designator U?
5 MHz Two-Phase MOS Clock Driver; Published: 15-Apr-2002; LatestRevisionDate: 06-Jun-2005; LatestRevisionNote: Stylized 3D Model Added.; DatasheetVersion: Sep-1989; PackageVersion: 2000; PackageReference: J08A; Publisher: Altium Limited; PackageDescription: DIP; 8 Leads; Row Spacing 7.62 mm; Pitch 2.54 mm; ComponentLink1Description: Manufacturer Link; ComponentLink1URL: http://www.national.com/
footprint J08A (DIP; 8 Leads; Row Spacing 7.62 mm; Pitch 2.54 mm)
3D model J08A (DIP; 8 Leads; Row Spacing 7.62 mm; Pitch 2.54 mm)
pins: 1 VIN (in), 2 IN (in), 3 V- (power), 4 IN (in), 5 OUT (out), 6 VIN (in), 7 V+ (power), 8 OUT (out)
text: A; B

## MH0007CH
designator U?
DC Coupled MOS Clock Driver; Published: 15-Apr-2002; DatasheetVersion: Jun-1989; PackageVersion: 1989; PackageReference: H10E; Publisher: Altium Limited; PackageDescription: Can; 10 Leads; Pin Circle Dia. 5.84 mm; Lead Dia. 0.48 mm (max); ComponentLink1Description: Manufacturer Link; ComponentLink1URL: http://www.national.com/
footprint H10E (Can; 10 Leads; Pin Circle Dia. 5.84 mm; Lead Dia. 0.48 mm (max))
pins: 1 IN (in), 2 IN (in), 3 Q7Q6, 4 GND (power), 5 Q3Q5, 6 V- (power), 7 OUT (out), 8 Q1, 9 VCC (power), 10 V+ (power)

## MH0007H
designator U?
DC Coupled MOS Clock Driver; Published: 15-Apr-2002; DatasheetVersion: Jun-1989; PackageVersion: 1989; PackageReference: H10E; Publisher: Altium Limited; PackageDescription: Can; 10 Leads; Pin Circle Dia. 5.84 mm; Lead Dia. 0.48 mm (max); ComponentLink1Description: Manufacturer Link; ComponentLink1URL: http://www.national.com/
footprint H10E (Can; 10 Leads; Pin Circle Dia. 5.84 mm; Lead Dia. 0.48 mm (max))
pins: 1 IN (in), 2 IN (in), 3 Q7Q6, 4 GND (power), 5 Q3Q5, 6 V- (power), 7 OUT (out), 8 Q1, 9 VCC (power), 10 V+ (power)